# Altium footprint library Custom.PcbLib: 42 footprints (part 1 of 3)
Each footprint in its own frame and in the unit in brackets; x right, y up, seen from the top. Pads: shape width x height; smd on the part's side, far side on the other; paste and mask are expansions set on the pad; w line width, h text height; cw(c..) or ccw(c..) is an arc to the next point about the centre after c.
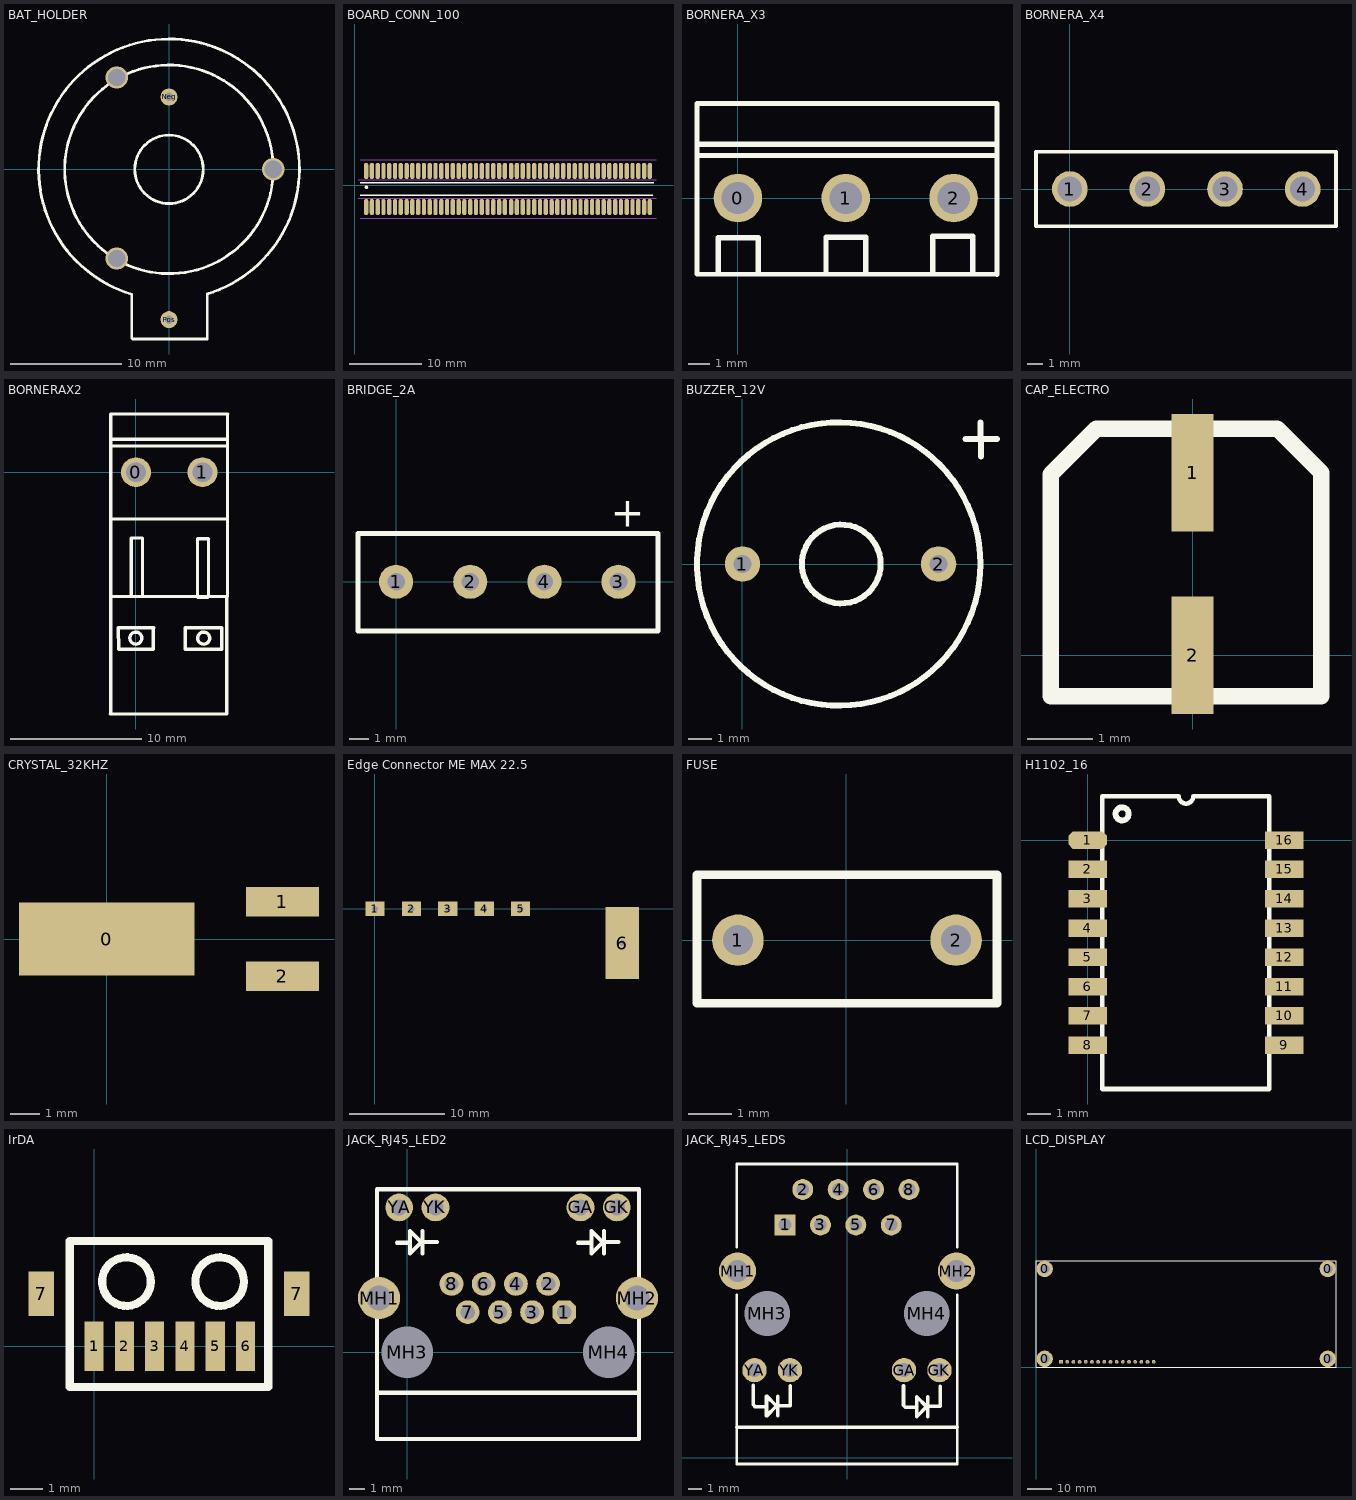
[diagram p0: the footprints below, top view; thin cyan lines are the x and y axes]

## BAT_HOLDER [mil] "Coin Battery Holder"
height 78.74
pads (2):
  round 60 hole 30: Neg(0,255.91) Pos(0,-531.5)
via -185,-315 diameter 78.74 hole 61.02
via -185,325 diameter 78.74 hole 61.02
via 368.9,0 diameter 78.74 hole 61.02
Top Overlay:
  circle w10: c0,0 r121.04
  circle w10: c0,0 r368.9
  lines w10: -132,-597 -128.99,-600 135,-600 135.21,-599.79 135.21,-440.7 ccw(c0,0) -132,-441.67 -132,-597

## BOARD_CONN_100 [mm]
height 6
pads (100):
  oval 0.6x2.25 smd: 1(1.608,-3.008) 2(1.608,1.992) 3(2.408,-3.008) 4(2.408,1.992) 5(3.208,-3.008) 6(3.208,1.992) 7(4.008,-3.008) 8(4.008,1.992) 9(4.808,-3.008) 10(4.808,1.992) 11(5.608,-3.008) 12(5.608,1.992) 13(6.408,-3.008) 14(6.408,1.992) 15(7.208,-3.008) 16(7.208,1.992) 17(8.008,-3.008) 18(8.008,1.992) 19(8.808,-3.008) 20(8.808,1.992) 21(9.608,-3.008) 22(9.608,1.992) 23(10.408,-3.008) 24(10.408,1.992) 25(11.208,-3.008) 26(11.208,1.992) 27(12.008,-3.008) 28(12.008,1.992) 29(12.808,-3.008) 30(12.808,1.992) 31(13.608,-3.008) 32(13.608,1.992) 33(14.408,-3.008) 34(14.408,1.992) 35(15.208,-3.008) 36(15.208,1.992) 37(16.008,-3.008) 38(16.008,1.992) 39(16.808,-3.008) 40(16.808,1.992) 41(17.608,-3.008) 42(17.608,1.992) 43(18.408,-3.008) 44(18.408,1.992) 45(19.208,-3.008) 46(19.208,1.992) 47(20.008,-3.008) 48(20.008,1.992) 49(20.808,-3.008) 50(20.808,1.992) 51(21.674,-3.008) 52(21.674,1.992) 53(22.474,-3.008) 54(22.474,1.992) 55(23.274,-3.008) 56(23.274,1.992) 57(24.074,-3.008) 58(24.074,1.992) 59(24.874,-3.008) 60(24.874,1.992) 61(25.674,-3.008) 62(25.674,1.992) 63(26.474,-3.008) 64(26.474,1.992) 65(27.274,-3.008) 66(27.274,1.992) 67(28.074,-3.008) 68(28.074,1.992) 69(28.874,-3.008) 70(28.874,1.992) 71(29.674,-3.008) 72(29.674,1.992) 73(30.474,-3.008) 74(30.474,1.992) 75(31.274,-3.008) 76(31.274,1.992) 77(32.074,-3.008) 78(32.074,1.992) 79(32.874,-3.008) 80(32.874,1.992) 81(33.674,-3.008) 82(33.674,1.992) 83(34.474,-3.008) 84(34.474,1.992) 85(35.274,-3.008) 86(35.274,1.992) 87(36.074,-3.008) 88(36.074,1.992) 89(36.874,-3.008) 90(36.874,1.992) 91(37.674,-3.008) 92(37.674,1.992) 93(38.474,-3.008) 94(38.474,1.992) 95(39.274,-3.008) 96(39.274,1.992) 97(40.074,-3.008) 98(40.074,1.992) 99(40.874,-3.008) 100(40.874,1.992)
Top Overlay:
  circle w0.25: c1.653,-0.254 r0.125
  lines w0.2: 0.762,-1.397 21.209,-1.397 ; 0.762,0.381 21.336,0.381 ; 20.828,-1.397 41.275,-1.397 ; 20.828,0.381 41.402,0.381
Mechanical 13:
  lines w0.1: 0.508,-1.778 21.717,-1.778 ; 0.508,0.762 21.717,0.762 ; 20.574,-1.778 41.783,-1.778 ; 20.574,0.762 41.783,0.762
Mechanical 15:
  lines w0.1: 0.762,-4.572 21.717,-4.572 ; 0.762,3.556 21.717,3.556 ; 20.828,-4.572 41.783,-4.572 ; 20.828,3.556 41.783,3.556

## BORNERA_X3 [mil]
pads (3):
  round 90 hole 60: 0(0,0) 1(200,0) 2(400,0)
Top Overlay:
  lines w10: -75.79,78.74 480.31,78.74 379.92,78.74 ; -75.79,99.41 480.31,99.41 ; -36.42,-140.75 -36.42,-73.82 37.4,-73.82 37.4,-140.75 ; 163.39,-139.76 163.39,-72.83 237.2,-72.83 237.2,-139.76 ; 361.22,-137.8 361.22,-70.87 435.04,-70.87 435.04,-137.8 ; -75.79,-140.75 -75.79,175.2 276.57,175.2 480.31,175.2 480.31,-141.73 -75.79,-140.75

## BORNERA_X4 [mm]
height 12.5
pads (4):
  round 2.3 hole 1.6: 1(0,0) 2(5,0) 3(10,0) 4(15,0)
Top Overlay:
  lines w0.254: -2.175,-2.4 -2.175,2.4 ; -2.15,-2.4 17.15,-2.4 17.15,2.4 -2.125,2.4

## BORNERAX2 [mil]
height 300
pads (2):
  round 90 hole 60: 0(0,0) 1(200,0)
Top Overlay:
  circle w10: c203.71,-499 r18.07
  lines w10: -75.79,78.74 273.62,78.74 275.59,80.71 ; -75.79,99.41 271.65,99.41 ; 17.72,-499.02 cw(c-0.35,-499.02) 17.69,-498.01 ; 257.85,-468.49 257.85,-467.5 ; -75.79,-374.02 -75.79,-140.75 ; -75.79,-374.02 -75.79,-374.02 ; -75.79,-374.02 273.62,-374.02 ; -75.79,-374.02 -75.79,-725.39 -77.76,-727.36 272.64,-727.36 273.62,-726.38 273.62,-374.02 ; -75.79,-140.75 275.59,-140.75 ; -75.79,-140.75 -75.79,175.2 276.57,175.2 275.59,174.21 275.59,-140.75 ; 257.85,-467.5 148.59,-467.5 148.59,-532.46 257.85,-532.46 257.85,-467.5 ; 273.62,-374.02 275.59,-372.05 275.59,-140.75 ; -53.18,-467.5 53.12,-467.5 52.14,-467.5 52.14,-532.46 2.92,-532.46 -52.19,-532.46 -53.18,-467.5 ; -13.78,-373.03 -13.78,-197.83 19.68,-197.83 19.68,-372.05 17.72,-374.02 -12.8,-374.02 -13.78,-373.03 ; 185.04,-375 185.04,-199.8 218.5,-199.8 218.5,-374.02 216.54,-375.98 186.02,-375.98 185.04,-375

## BRIDGE_2A [mm] "Single Phase Bridge Rectifier"
height 12.7
pads (4):
  round 1.75 hole 0.9: 1(0,0) 2(3.8,0) 3(11.4,0) 4(7.6,0)
Top Overlay:
  lines w0.254: -1.95,-2.525 -1.95,2.475 13.425,2.475 13.425,-2.525 -1.95,-2.525
  text "+" at 11,2.825 h1.52

## BUZZER_12V [mm]
height 5
pads (2):
  round 1.5 hole 0.75: 1(0,0) 2(8.3,0)
Top Overlay:
  circle w0.254: c4.075,0 r6
  circle w0.254: c4.182,0 r1.668
  lines w0.254: 9.45,5.3 10.775,5.3 ; 10.075,6 10.1,4.55

## CAP_ELECTRO [mm] "SMD ELECTROLYTIC CAPACITOR"
height 5
pads (2):
  rect 0.65x1.8 smd: 1(0,2.8) 2(0,0)
Top Overlay:
  lines w0.254: -2.175,-0.625 -2.175,2.775 -1.475,3.475 1.3,3.475 1.975,2.8 1.975,-0.625 -2.175,-0.625

## CRYSTAL_32KHZ [mm]
height 2
pads (3):
  rect 6x2.5 smd: 0(0,0)
  rect 2.5x1 smd: 1(6,1.27) 2(6,-1.27)
Top Overlay:
  lines w0.254: -2.5,0.725 -2.5,-0.675 2.35,-0.675 2.35,0.725 ; -2.5,0.75 2.35,0.75

## Edge Connector ME MAX 22.5 [mm]
pads (6):
  rect 2x1.5 hole 0.6: 1(0,0) 2(3.81,0) 3(7.62,0) 4(11.43,0) 5(15.24,0)
  rect 3.5x7.5 hole 0.6: 6(25.87,-3.6)
Multi-Layer:
  region: 1.01,-0.77 1.016,-0.635 -1.016,-0.643 -1.016,-1.016 -1.778,-3.175 -0.762,-3.175
  region: 4.826,-0.762 4.826,-0.572 2.794,-0.579 2.794,-0.953 2.01,-3.175 3.048,-3.175 4.064,-1.778
  region: 8.636,-0.762 8.636,-0.572 6.604,-0.579 6.604,-0.953 5.82,-3.175 6.858,-3.175 7.874,-1.778
  region: 12.446,-0.762 12.446,-0.572 10.414,-0.579 10.414,-0.953 9.63,-3.175 10.668,-3.175 11.684,-1.778
  region: 16.256,-0.762 16.256,-0.572 14.224,-0.579 14.224,-0.953 13.44,-3.175 14.478,-3.175 15.494,-1.778

## FUSE [mm]
height 12
pads (2):
  round 1.2 hole 0.7: 1(-2.524,0) 2(2.556,0)
Top Overlay:
  lines w0.2: -3.479,-1.465 3.511,-1.465 3.511,1.52 -3.479,1.52 -3.479,-1.465

## H1102_16 [mm]
pads (16):
  oct 1.67x0.76 smd: 1(0,0)
  rect 1.67x0.76 smd: 2(0,-1.27) 3(0,-2.54) 4(0,-3.81) 5(0,-5.08) 6(0,-6.35) 7(0,-7.62) 8(0,-8.89) 9(8.53,-8.89) 10(8.53,-7.62) 11(8.53,-6.35) 12(8.53,-5.08) 13(8.53,-3.81) 14(8.53,-2.54) 15(8.53,-1.27) 16(8.53,0)
Top Overlay:
  circle w0.254: c1.494,1.143 r0.284
  lines w0.2: 0.635,-10.795 7.874,-10.795 7.872,1.905 4.583,1.905 cw(c4.265,1.905) 3.948,1.905 0.635,1.905 0.635,-10.795

## IrDA [mm]
height 5
pads (9):
  rect 0.6x1.55 smd: 1(0,0) 1(0,0) 2(0.95,0) 3(1.9,0) 4(2.85,0) 5(3.8,0) 6(4.75,0)
  rect 0.8x1.4 smd: 7(-1.651,1.651) 7(6.35,1.651)
Top Overlay:
  circle w0.254: c1.016,2.032 r0.762
  circle w0.254: c3.937,2.032 r0.762
  lines w0.254: -0.762,-1.27 -0.762,3.302 5.461,3.302 5.461,-1.27 -0.762,-1.27

## JACK_RJ45_LED2 [mm]
pads (16):
  oct 1.5x1.5 hole 0.9: 1(9.9,2.54)
  round 1.5 hole 0.9: 2(8.88,4.32) 3(7.87,2.54) 4(6.85,4.32) 5(5.84,2.54) 6(4.82,4.32) 7(3.81,2.54) 8(2.79,4.32)
  round 1.75 hole 1: GA(10.92,9.14) GK(13.21,9.14) YA(-0.51,9.14) YK(1.78,9.14)
  round 2.65 hole 1.6: MH1(-1.78,3.43) MH2(14.48,3.43)
  round 2.95 hole 3.25 unplated: MH3(0,0) MH4(12.7,0)
Top Overlay:
  lines w0.254: -1.905,-2.54 14.605,-2.54 ; -0.653,6.916 0.172,6.916 ; 0.972,6.241 0.972,7.666 ; 10.777,6.916 11.602,6.916 ; 12.402,6.241 12.402,7.666 ; 0.872,6.966 1.872,6.966 ; 0.872,6.966 0.172,7.666 0.172,6.241 0.872,6.941 0.872,6.966 ; 1.872,6.966 1.872,6.966 ; 12.302,6.966 13.302,6.966 ; 12.302,6.966 11.602,7.666 11.602,6.241 12.302,6.941 12.302,6.966 ; 13.302,6.966 13.302,6.966 ; -1.905,-5.461 -1.905,10.287 14.605,10.287 14.605,-5.461 -1.905,-5.461
Mechanical 13:
  lines w0.1: -1.905,-5.46 -1.905,10.31 ; 14.605,-5.46 14.605,10.31
3D body: height 13.21, standoff 0, extent -1.944,-5.461 14.605,10.287

## JACK_RJ45_LEDS [mm]
pads (16):
  rect 1.5x1.5 hole 0.9: 1(-4.445,16.69)
  round 1.5 hole 0.9: 2(-3.175,19.23) 3(-1.905,16.69) 4(-0.635,19.23) 5(0.635,16.69) 6(1.905,19.23) 7(3.175,16.69) 8(4.445,19.23)
  round 1.75 hole 1: GA(4.09,6.28) GK(6.63,6.28) YA(-6.63,6.28) YK(-4.09,6.28)
  round 2.65 hole 1.6: MH1(-7.849,13.388) MH2(7.849,13.388)
  round 2.95 hole 3.25: MH3(-5.715,10.34) MH4(5.715,10.34)
Top Overlay:
  lines w0.2: -7.9,11.664 -7.9,-0.45 7.9,-0.45 7.9,11.664 ; -7.9,15.112 -7.9,21.06 7.9,21.06 7.9,15.112
  lines w0.254: -7.9,2.175 7.9,2.175 ; -6.721,5.196 -6.721,3.796 -6.596,3.671 -5.771,3.671 ; -4.971,2.996 -4.971,4.421 ; -4.071,5.171 -4.071,3.721 ; 4.05,5.15 4.05,3.75 4.175,3.625 5,3.625 ; 5.8,2.95 5.8,4.375 ; 6.7,5.125 6.7,3.675 ; -5.071,3.721 -4.071,3.721 ; -5.071,3.721 -5.771,4.421 -5.771,2.996 -5.071,3.696 -5.071,3.721 ; -4.071,3.721 -4.071,3.721 ; 5.7,3.675 6.7,3.675 ; 5.7,3.675 5,4.375 5,2.95 5.7,3.65 5.7,3.675 ; 6.7,3.675 6.7,3.675

## LCD_DISPLAY [mil] "Alphanumeric 2 x 20 LCD Display."
height 150
pads (20):
  round 265.75 hole 149.61: 0(135,139.29) 0(135,1595) 0(4715.71,139.29) 0(4715.71,1595)
  round 60 hole 35: 1(1700,90) 2(1600,90) 3(1500,90) 4(1400,90) 5(1300,90) 6(1200,90) 7(1100,90) 8(1000,90) 9(900,90) 10(800,90) 11(700,90) 12(600,90) 13(500,90) 15(1800,90) 16(1900,90)
  rect 60x60 hole 35: 14(400,90)
Top Overlay:
  lines w10: -5,5 4850,5 4850,1730 2795,1730 0,1730 0,0